# EAGLE library part BSS138PS (library vibhud)
Dual N-Channel MOSFET BSS138 (Vgs>=+/-20V, Vds>=40V, Id>=0.2A + Rds<=3Ohm @ Vgs=4.5V)
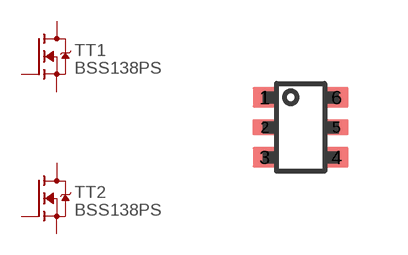
[diagram p10: symbol with the pads of SOT363; footprint SOT363]

Designator prefix T; gates T1=MOSFET_N-CHN T2=MOSFET_N-CHN

## BSS138PS  [SOT363]
1  T1:S  pas
2  T1:G  pas
3  T2:D  pas
4  T2:S  pas
5  T2:G  pas
6  T1:D  pas

## Footprint SOT363 (pad centres in mm)
smd 0.6 x 0.5: 1 -0.9,0.75; 3 -0.9,-0.75; 4 0.9,-0.75; 6 0.9,0.75
smd 0.6 x 0.4: 2 -0.9,0; 5 0.9,0